# EAGLE library part PINHD-1X6 (library Arduino-SmartPrj)
PIN HEADER
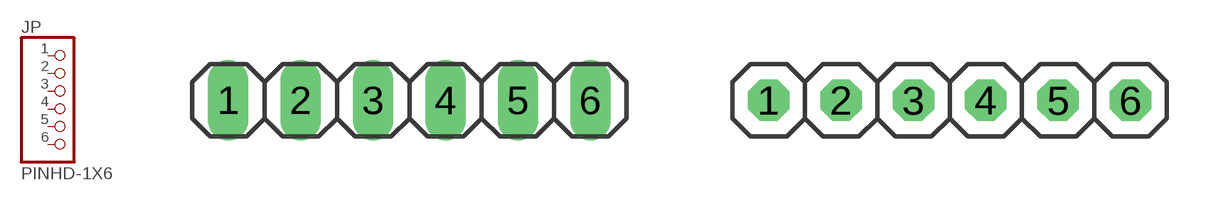
[diagram p2: symbol with the pads of 1X06; footprints 1X06, 1X06_LITTLE]

Designator prefix JP

## PINHD-1X6  [1X06]
1  1  pas
2  2  pas
3  3  pas
4  4  pas
5  5  pas
6  6  pas

## PINHD-1X6LITTLE  [1X06_LITTLE]
Pads as for 1X06

## PINHD-1X6TH  [1X06-TH]
Pads as for 1X06

## Footprint 1X06 (pad centres in mm)
PIN HEADER
drill 0.85 pad 1.422 long: 1 -6.35,0; 2 -3.81,0; 3 -1.27,0; 4 1.27,0; 5 3.81,0; 6 6.35,0

## Footprint 1X06_LITTLE (pad centres in mm)
drill 0.95 pad 1.422 octagon: 1 -6.35,0; 2 -3.81,0; 3 -1.27,0; 4 1.27,0; 5 3.81,0; 6 6.35,0

## Footprint 1X06-TH (pad centres in mm)
drill 0.95 pad 1.422 long: 1 -6.35,0; 2 -3.81,0; 3 -1.27,0; 4 1.27,0; 5 3.81,0; 6 6.35,0